# EAGLE library part ICL7662CBA (library linear)
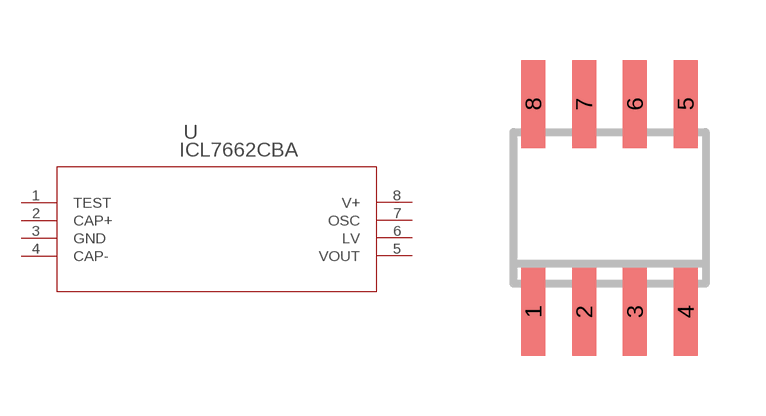
[diagram p282: symbol with the pads of SO08; footprint SO08]

Designator prefix -

## ICL7662CBA  [SO08]
1  TEST  pas
2  CAP+  pas
3  GND  pwr
4  CAP-  pas
5  VOUT  pwr
6  LV  in
7  OSC  in
8  V+  pwr

## Footprint SO08 (pad centres in mm)
Small Outline Package 8 NS Package M08A
smd 0.6 x 2.2: 1 -1.905,-2.6; 2 -0.635,-2.6; 3 0.635,-2.6; 4 1.905,-2.6; 5 1.905,2.6; 6 0.635,2.6; 7 -0.635,2.6; 8 -1.905,2.6